# EAGLE library part 5015680607 (library WMD_TO_HRF)
1.00mm Pitch Pico-Clasp™ Wire-to-Board Header, Surface Mount, Single Row, Right Angle, with Positive Lock, 6 Circuits
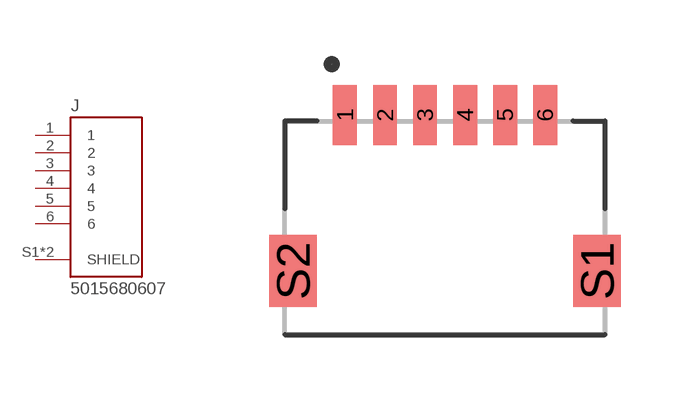
[diagram p0: symbol with the pads of MOLEX_5015680607; footprint MOLEX_5015680607]

Designator prefix J

## 5015680607 (Description: Connector Header Surface Mount, Right Angle 6 position 0.039 _1.00mm_; Digi-Key_Part_Number: WM7897CT-ND; Digi-Key_Purchase_URL: https://www.digikey.com/product-detail/en/molex/5015680607/WM7897CT-ND/1531547?utm_source=snapeda&utm_medium=aggregator&utm_campaign=symbol; MF: Molex; MP: 5015680607; Package: None)  [MOLEX_5015680607]
1  1  pas
2  2  pas
3  3  pas
4  4  pas
5  5  pas
6  6  pas
S1  SHIELD  pas
S2  SHIELD  pas

## Footprint MOLEX_5015680607 (pad centres in mm)
smd 0.6 x 1.5: 1 -2.5,0; 2 -1.5,0; 3 -0.5,0; 4 0.5,0; 5 1.5,0; 6 2.5,0
smd 1.2 x 1.8: S1 3.8,-3.9; S2 -3.8,-3.9